# Altium footprint library Terminal.PcbLib: 35 footprints (part 3 of 3)
Each footprint in its own frame and in the unit in brackets; x right, y up, seen from the top. Pads: shape width x height; smd on the part's side, far side on the other; paste and mask are expansions set on the pad; w line width, h text height; cw(c..) or ccw(c..) is an arc to the next point about the centre after c.
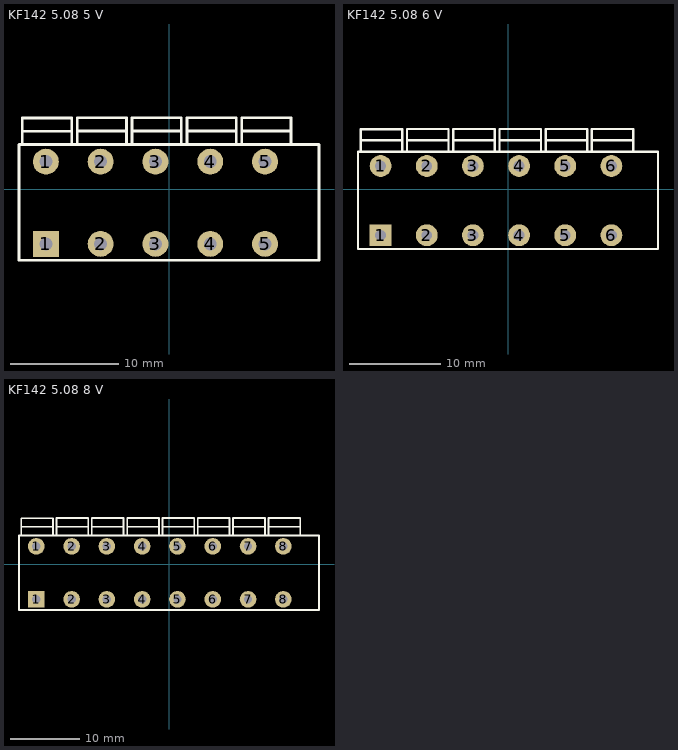
[diagram p2: the footprints below, top view; thin cyan lines are the x and y axes]

## KF142 5.08 5 V [mm] "pitch 5.08mm"
pads (10):
  rect 2.4x2.4 hole 1.2: 1(-11.423,-5.073)
  round 2.4 hole 1.2: 1(-11.423,2.547) 2(-6.343,-5.073) 2(-6.343,2.547) 3(-1.263,-5.073) 3(-1.263,2.547) 4(3.817,-5.073) 4(3.817,2.547) 5(8.897,-5.073) 5(8.897,2.547)
Top Overlay:
  lines w0.254: -13.602,4.13 -13.602,6.603 -9.029,6.603 -9.029,4.13 ; -13.602,5.367 -9.029,5.367 ; -8.518,4.13 -8.518,6.624 -3.944,6.624 -3.944,4.13 ; -8.518,5.388 -3.944,5.388 ; -3.433,4.13 -3.433,6.624 1.141,6.624 1.141,4.13 ; -3.433,5.388 1.141,5.388 ; 1.652,4.13 1.652,6.624 6.225,6.624 6.225,4.13 ; 1.652,5.388 6.225,5.388 ; 6.736,4.13 6.736,6.624 11.31,6.624 11.31,4.13 ; 6.736,5.388 11.31,5.388 ; -13.913,-6.597 -13.913,4.13 13.9,4.13 13.9,-6.597 -13.913,-6.597
3D body "KF142 5.STEP": height 14.1, standoff -3.5, extent -13.913,-6.597 13.927,6.603

## KF142 5.08 6 V [mm] "pitch 5.08mm"
pads (12):
  rect 2.4x2.4 hole 1.2: 1(-14.02,-5.076)
  round 2.4 hole 1.2: 1(-14.02,2.544) 2(-8.94,-5.076) 2(-8.94,2.544) 3(-3.86,-5.076) 3(-3.86,2.544) 4(1.22,-5.076) 4(1.22,2.544) 5(6.3,-5.076) 5(6.3,2.544) 6(11.38,-5.076) 6(11.38,2.544)
Top Overlay:
  lines w0.254: -16.199,4.127 -16.199,6.6 -11.625,6.6 -11.625,4.127 ; -16.199,5.364 -11.625,5.364 ; -11.114,4.127 -11.114,6.621 -6.541,6.621 -6.541,4.127 ; -11.114,5.385 -6.541,5.385 ; -6.03,4.127 -6.03,6.621 -1.456,6.621 -1.456,4.127 ; -6.03,5.385 -1.456,5.385 ; -0.945,4.127 -0.945,6.621 3.628,6.621 3.628,4.127 ; -0.945,5.385 3.628,5.385 ; 4.139,4.127 4.139,6.621 8.713,6.621 8.713,4.127 ; 4.139,5.385 8.713,5.385 ; 9.224,4.127 9.224,6.621 13.798,6.621 13.798,4.127 ; 9.224,5.385 13.798,5.385 ; -16.51,-6.6 16.51,-6.6 16.51,4.127 -16.51,4.127 -16.51,-6.6
3D body "KF142 6.STEP": height 14.1, standoff -3.5, extent -16.51,-6.6 16.51,6.6

## KF142 5.08 8 V [mm] "pitch 5.08mm"
pads (16):
  rect 2.4x2.4 hole 1.2: 1(-19.1,-5.076)
  round 2.4 hole 1.2: 1(-19.1,2.544) 2(-14.02,-5.076) 2(-14.02,2.544) 3(-8.94,-5.076) 3(-8.94,2.544) 4(-3.86,-5.076) 4(-3.86,2.544) 5(1.22,-5.076) 5(1.22,2.544) 6(6.3,-5.076) 6(6.3,2.544) 7(11.38,-5.076) 7(11.38,2.544) 8(16.46,-5.076) 8(16.46,2.544)
Top Overlay:
  lines w0.254: -21.279,4.127 -21.279,6.6 -16.705,6.6 -16.705,4.127 ; -21.279,5.364 -16.705,5.364 ; -16.194,4.127 -16.194,6.621 -11.621,6.621 -11.621,4.127 ; -16.194,5.385 -11.621,5.385 ; -11.11,4.127 -11.11,6.621 -6.536,6.621 -6.536,4.127 ; -11.11,5.385 -6.536,5.385 ; -6.025,4.127 -6.025,6.621 -1.452,6.621 -1.452,4.127 ; -6.025,5.385 -1.452,5.385 ; -0.941,4.127 -0.941,6.621 3.633,6.621 3.633,4.127 ; -0.941,5.385 3.633,5.385 ; 4.144,4.127 4.144,6.621 8.718,6.621 8.718,4.127 ; 4.144,5.385 8.718,5.385 ; 9.229,4.127 9.229,6.621 13.802,6.621 13.802,4.127 ; 9.229,5.385 13.802,5.385 ; 14.313,4.127 14.313,6.621 18.887,6.621 18.887,4.127 ; 14.313,5.385 18.887,5.385 ; -21.59,-6.6 21.59,-6.6 21.59,4.127 -21.59,4.127 -21.59,-6.6
3D body "KF142 8.STEP": height 14.1, standoff -3.5, extent -21.59,-6.6 21.59,6.6